# EAGLE library part 62504022121 (library Wire_to_Board_Connectors_rev15d)
WR-BHD 2.00mm Male Angled Box Header With Lever, 40 Pins=>Code : Con_WTB_BHD_2.00_Male_THT_62504022121 <http://katalog.we-online.de/media/thumbs2/eican/thb_Con_WTB_BHD_2.00_Male_THT_6250xx22121_pf2.jpg> Details see: http://katalog.we-online.de/en/em/625_0xx_221_21 Created 2014-06-05, Karrer Zheng 2014 (C) Würth Elektronik
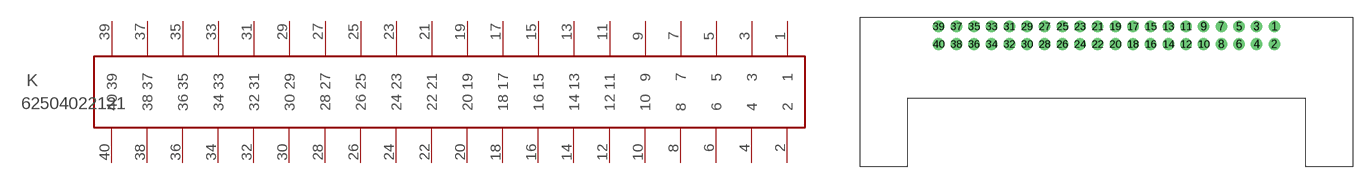
[diagram p252: symbol with the pads of 62504022121; footprint 62504022121]

Designator prefix K

## 62504022121  [62504022121]
1  1  pas
2  2  pas
3  3  pas
4  4  pas
5  5  pas
6  6  pas
7  7  pas
8  8  pas
9  9  pas
10  10  pas
11  11  pas
12  12  pas
13  13  pas
14  14  pas
15  15  pas
16  16  pas
17  17  pas
18  18  pas
19  19  pas
20  20  pas
21  21  pas
22  22  pas
23  23  pas
24  24  pas
25  25  pas
26  26  pas
27  27  pas
28  28  pas
29  29  pas
30  30  pas
31  31  pas
32  32  pas
33  33  pas
34  34  pas
35  35  pas
36  36  pas
37  37  pas
38  38  pas
39  39  pas
40  40  pas

## Footprint 62504022121 (pad centres in mm)
WR-BHD 2.00mm Male Angled Box Header With Lever, 40 Pins
drill 0.8: 1 20,1; 2 20,-1; 3 18,1; 4 18,-1; 5 16,1; 6 16,-1; 7 14,1; 8 14,-1; 9 12,1; 10 12,-1; 11 10,1; 12 10,-1; 13 8,1; 14 8,-1; 15 6,1; 16 6,-1; 17 4,1; 18 4,-1; 19 2,1; 20 2,-1; 21 0,1; 22 0,-1; 23 -2,1; 24 -2,-1; 25 -4,1; 26 -4,-1; 27 -6,1; 28 -6,-1; 29 -8,1; 30 -8,-1; 31 -10,1; 32 -10,-1; 33 -12,1; 34 -12,-1; 35 -14,1; 36 -14,-1; 37 -16,1; 38 -16,-1; 39 -18,1; 40 -18,-1